# Altium footprint library PcbLib1.PcbLib: 10 footprints
Each footprint in its own frame and in the unit in brackets; x right, y up, seen from the top. Pads: shape width x height; smd on the part's side, far side on the other; paste and mask are expansions set on the pad; w line width, h text height; cw(c..) or ccw(c..) is an arc to the next point about the centre after c.
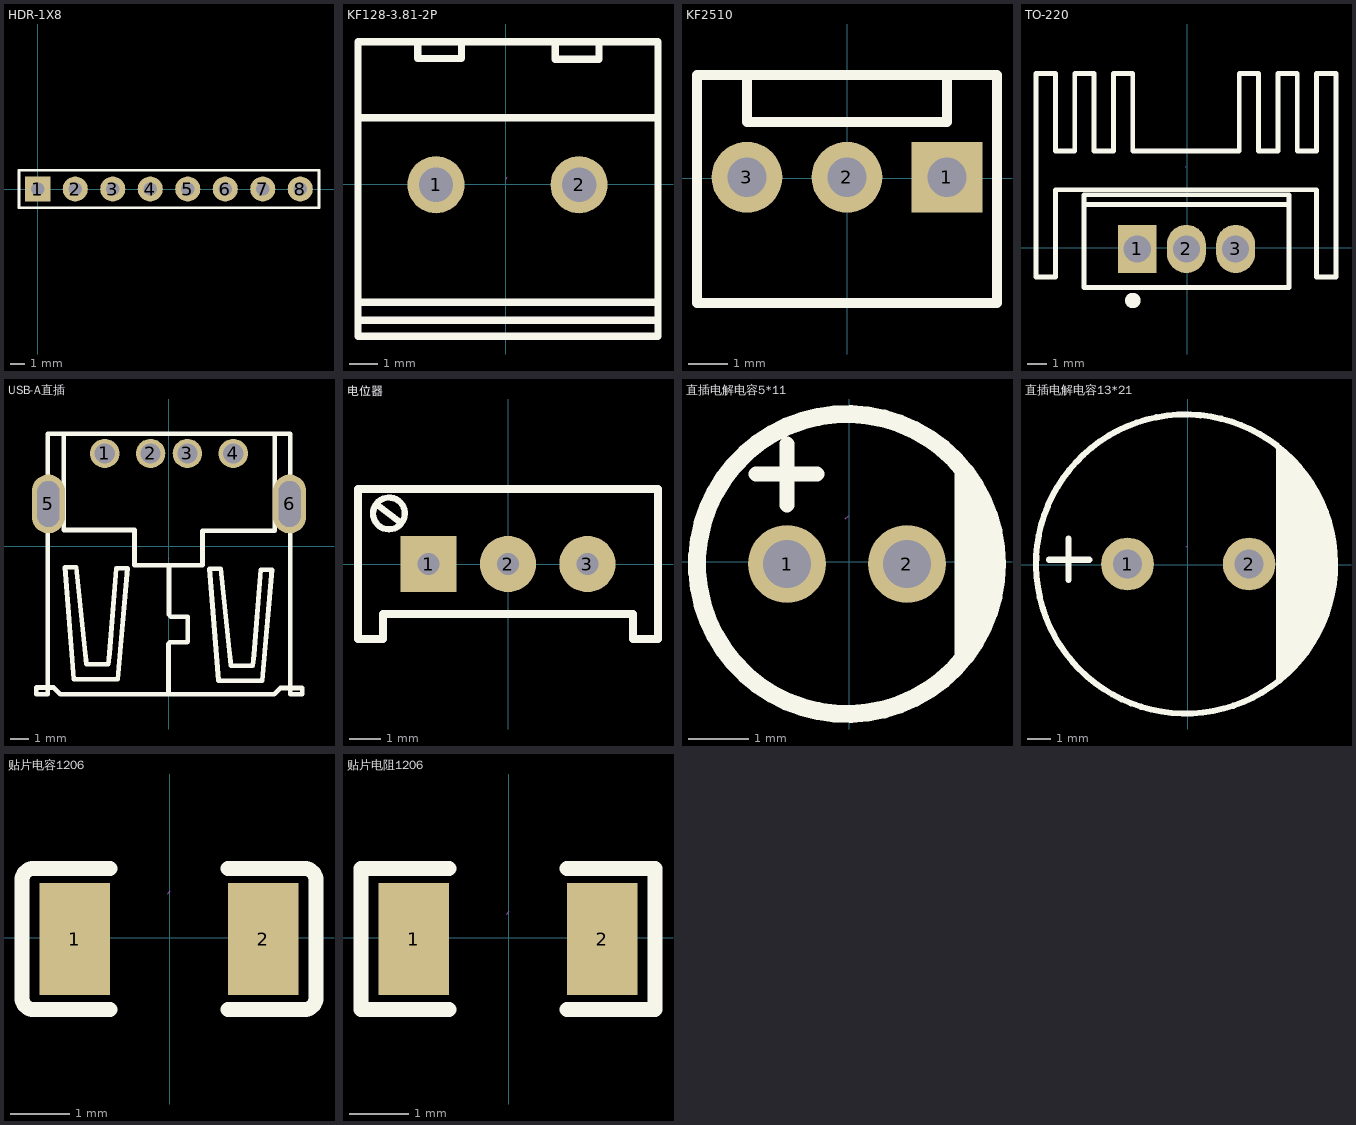
[diagram p0: the footprints below, top view; thin cyan lines are the x and y axes]

## HDR-1X8 [mm] "排针，8脚"
pads (8):
  rect 1.7x1.7 hole 0.9: 1(0,0)
  round 1.7 hole 0.9: 2(2.54,0) 3(5.08,0) 4(7.62,0) 5(10.16,0) 6(12.7,0) 7(15.24,0) 8(17.78,0)
Top Overlay:
  lines w0.2: -1.27,-1.27 -1.27,1.27 19.05,1.27 19.05,-1.27 -1.27,-1.27
3D body "HDR2.54-1P.STEP": height 8.5, standoff -3, extent 16.51,-1.27 19.05,1.27
3D body "HDR2.54-1P.STEP": height 8.5, standoff -3, extent 11.43,-1.27 13.97,1.27
3D body "HDR2.54-1P.STEP": height 8.5, standoff -3, extent 13.97,-1.27 16.51,1.27
3D body "HDR2.54-1P.STEP": height 8.5, standoff -3, extent 8.89,-1.27 11.43,1.27
3D body "HDR2.54-1P.STEP": height 8.5, standoff -3, extent 6.35,-1.27 8.89,1.27
3D body "HDR2.54-1P.STEP": height 8.5, standoff -3, extent 3.81,-1.27 6.35,1.27
3D body "HDR2.54-1P.STEP": height 8.5, standoff -3, extent 1.27,-1.27 3.81,1.27
3D body "HDR2.54-1P.STEP": height 8.5, standoff -3, extent -1.27,-1.27 1.27,1.27

## KF128-3.81-2P [mm] "螺钉式接线端子，脚距3.81mm"
pads (2):
  round 2 hole 1.2: 1(-2.439,-0.009) 2(2.57,-0.009)
Top Overlay:
  lines w0.254: -5.17,-4.749 5.33,-4.749 ; -5.17,-4.119 5.33,-4.119 ; -5.17,2.331 5.33,2.331 ; -3.081,4.95 -3.081,4.41 -1.551,4.41 -1.551,4.95 ; 1.737,4.92 1.737,4.38 3.267,4.38 3.267,4.92 ; -5.17,-5.309 -5.17,4.992 5.33,4.992 5.33,-5.309 -5.17,-5.309
Mechanical 15:
  lines w0.003: 0.011,0.205 0.062,0.256
3D body "User Library-TER-KF128-2P接线端子.step": height 14.45, standoff -4.85, extent -5.634,-5.268 5.126,5.232

## KF2510 [mm] "接插件"
pads (3):
  rect 1.8x1.8 hole 1: 1(2.54,0.022)
  round 1.8 hole 1: 2(0,0.022) 3(-2.54,0.022)
Top Overlay:
  lines w0.254: -2.54,2.622 -2.54,1.422 2.54,1.422 2.54,2.622 ; -3.81,-3.178 -3.81,2.622 3.81,2.622 3.81,-3.178 -3.81,-3.178
Mechanical 15:
  lines w0.003: -0.025,0.106 0.025,0.157
3D body "KF2510中.STEP": height 11.05, standoff -2.95, extent -1.27,-3.322 1.27,2.578
3D body "KF2510左.STEP": height 11.05, standoff -2.95, extent -3.81,-3.322 -1.27,2.578
3D body "KF2510右.STEP": height 11.05, standoff -2.95, extent 1.27,-3.322 3.81,2.578

## TO-220 [mm]
pads (3):
  rect 2.002x2.499 hole 1.4: 1(-2.573,-0.057)
  oval 2x2.5 hole 1.4: 2(-0.033,-0.057) 3(2.507,-0.057)
Top Overlay:
  lines w0.254: -5.333,2.243 5.267,2.243 ; -7.805,-1.499 -6.805,-1.499 -6.805,3.001 6.694,3.001 6.694,-1.499 7.694,-1.499 7.694,9.001 6.694,9.001 6.694,5.001 5.694,5.001 5.694,9.001 4.694,9.001 4.694,5.001 3.694,5.001 3.694,9.001 2.694,9.001 2.694,5.001 -2.805,5.001 -2.805,9.001 -3.805,9.001 -3.805,5.001 -4.805,5.001 -4.805,9.001 -5.805,9.001 -5.805,5.001 -6.805,5.001 -6.805,9.001 -7.805,9.001 -7.805,-1.499 ; -5.334,-2.056 5.268,-2.056 5.268,2.742 -5.334,2.742 -5.334,2.737 -5.334,-2.056
  lines w0.4: -2.802,-2.521 ccw(c-2.8,-2.721) -2.799,-2.521
Mechanical 15:
  lines w0.003: -0.081,4.159 -0.03,4.21 ; -0.058,0.549 -0.008,0.6
3D body "TO220A.STEP": height 18.5, standoff -4, extent -5.183,-1.763 5.117,2.667

## USB-A直插 [mm] "90度"
pads (6):
  round 1.6 hole 1.1: 1(-3.478,5.039) 2(-0.979,5.039) 3(1.023,5.039) 4(3.522,5.039)
  oval 1.8x3.2 hole 1.2 slot 2.5 at 90 deg copper offset 0.001,0.001: 5(-6.548,2.289)
  oval 1.8x3.2 hole 1.2 slot 2.5 at 90 deg copper offset -0.001,0.001: 6(6.592,2.289)
Top Overlay:
  lines w0.254: -7.217,-8.067 -6.582,-8.067 ; -7.214,-8.067 -7.217,-7.711 -6.252,-7.711 -5.896,-8.067 5.762,-8.067 6.093,-7.737 7.286,-7.737 7.286,-8.067 6.626,-8.067 ; -6.582,-8.054 -6.582,6.106 6.618,6.106 ; -5.718,6.081 -5.718,0.874 -1.858,0.874 -1.858,-1.057 1.851,-1.057 1.851,0.823 5.788,0.823 5.788,6.106 ; -0.003,-8.067 -0.003,-5.324 0.073,-5.248 1.013,-5.248 1.038,-5.222 1.038,-3.851 0.124,-3.851 0.022,-3.749 0.022,-1.082 ; 6.626,-8.054 6.626,6.106 ; -5.642,-1.158 -5.16,-7.254 -2.772,-7.254 -2.239,-1.209 -2.848,-1.209 -3.221,-5.847 -3.295,-6.441 -4.474,-6.441 -4.575,-5.578 -5.033,-1.158 -5.642,-1.158 ; 2.232,-1.234 2.714,-7.33 5.102,-7.33 5.635,-1.285 5.026,-1.285 4.653,-5.923 4.579,-6.518 3.4,-6.518 3.299,-5.654 2.841,-1.234 2.232,-1.234
Mechanical 15:
  lines w0.003: -0.003,-0.725 0.047,-0.674
3D body "Samtec-USBR-A-S-S-O-TH.STEP": height 2.2, standoff -8.65, extent -7.9,-7.994 7.9,6.166

## 电位器 [mm] "3296W"
pads (3):
  rect 1.8x1.8 hole 0.7: 1(-2.54,0)
  round 1.8 hole 0.7: 2(0,0) 3(2.54,0)
Top Overlay:
  lines w0.2: -3.302,1.651 ccw(c-3.81,1.618) -3.301,1.608
  lines w0.203: -4.2,1.9 -3.464,1.348
  lines w0.254: -4.8,-2.4 -4.8,2.4 4.8,2.4 4.8,-2.4 4,-2.4 4,-1.6 -4,-1.6 -4,-2.4 -4.8,-2.4
3D body "3296.STEP": height 11.52, standoff -3.48, extent -4.75,-2.4 4.75,2.4

## 直插电解电容5*11 [mm] "5*11MM"
pads (2):
  round 1.3 hole 0.8: 1(-1.037,-0.04) 2(0.963,-0.04)
Top Overlay:
  circle w0.3: c-0.037,-0.04 r2.5
  region: 1.757,1.611 1.924,1.451 2.188,1.071 2.37,0.645 2.463,0.192 2.463,-0.271 2.37,-0.725 2.188,-1.151 1.924,-1.531 1.757,-1.691
  lines w0.254: -1.553,1.46 -0.537,1.46 ; -1.037,0.944 -1.037,1.96
Mechanical 15:
  lines w0.003: -0.062,0.714 -0.012,0.765
3D body: height 5.41, standoff -5.4, extent -2.388,0.152 -2.388,0.152
3D body "CAP 2X5X11.STEP": height 11.04, standoff -3.42, extent -2.551,-2.539 2.459,2.459

## 直插电解电容13*21 [mm] "13*21mm"
pads (2):
  round 2.2 hole 1.2: 1(-2.524,0.027) 2(2.556,0.027)
Top Overlay:
  region: 3.699,5.031 3.699,-4.901 3.75,-4.952 4.817,-3.707 4.918,-3.656 5.274,-3.072 5.452,-2.691 5.731,-2.285 5.833,-1.675 6.01,-1.497 6.01,-0.684 6.164,-0.53 6.164,0.46 6.188,0.484 6.087,0.586 6.01,1.449 5.858,1.652 5.731,2.389 5.401,2.846 5.299,3.253 4.867,3.786 4.867,3.811
  lines w0.254: -5.801,0.205 -4.124,0.205 ; -4.988,-0.634 -4.988,1.094 ; -0.009,6.278 ccw(c-0.1,0.028) 0.1,6.275
Mechanical 15:
  lines w0.003: -0.065,0.747 -0.014,0.798
3D body "CAP 5X12.5X20.STEP": height 20.04, standoff -3.37, extent -6.301,-6.221 6.209,6.274

## 贴片电容1206 [mm]
pads (2):
  rect 1.2x1.9 smd: 1(-1.615,-0.019) 2(1.585,-0.019)
Top Overlay:
  lines w0.254: -1.015,-1.219 -2.215,-1.219 -2.315,-1.219 cw(c-2.315,-1.019) -2.515,-1.019 -2.515,0.981 cw(c-2.315,0.981) -2.315,1.181 -2.215,1.181 -1.015,1.181 ; 0.985,-1.219 2.185,-1.219 2.285,-1.219 ccw(c2.285,-1.019) 2.485,-1.019 2.485,0.981 ccw(c2.285,0.981) 2.285,1.181 2.185,1.181 0.985,1.181
Mechanical 15:
  lines w0.003: -0.04,0.749 0.011,0.8
3D body "C 1206.STEP": height 1.21, standoff -0.01, extent -1.6,-0.81 1.6,0.81

## 贴片电阻1206 [mm]
pads (2):
  rect 1.2x1.9 smd: 1(-1.615,-0.019) 2(1.585,-0.019)
Top Overlay:
  lines w0.254: -1.015,-1.219 -2.515,-1.219 -2.515,1.181 -1.015,1.181 ; 0.985,-1.219 2.485,-1.219 2.485,1.181 0.985,1.181
Mechanical 15:
  lines w0.003: -0.04,0.403 0.011,0.454
3D body "R1206.STEP": height 0.6, standoff 0, extent -1.6,-0.8 1.6,0.8